# EAGLE library part ATMEGA328P-PU (library ATMega328P-PU v1)
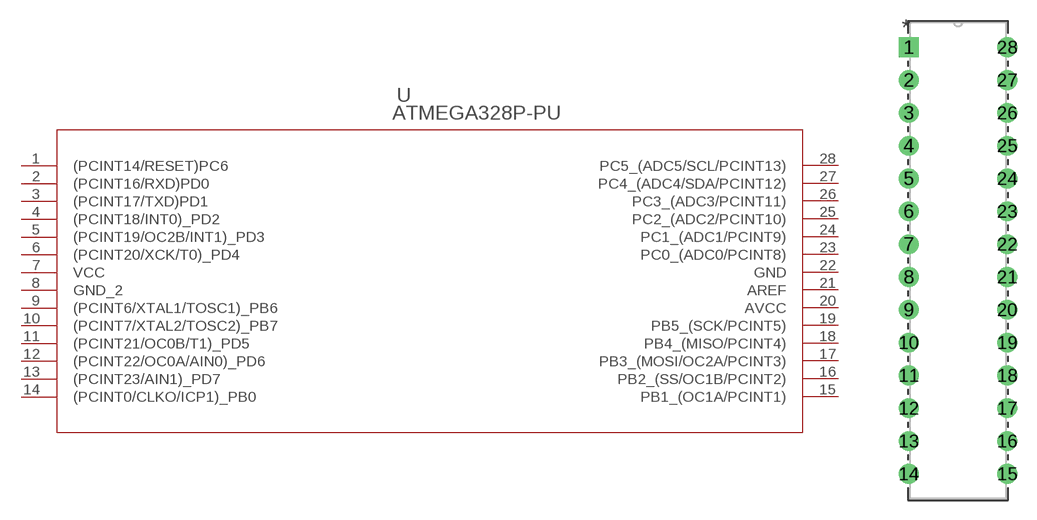
[diagram p0: symbol with the pads of 28P3_ATM; footprint 28P3_ATM]

Designator prefix U

## ATMEGA328P-PU28P3_ATM (COPYRIGHT: Copyright (C) 2022 Ultra Librarian. All rights reserved.; MANUFACTURER_PART_NUMBER: ATMEGA328P-PU; MFR_NAME: Microchip)  [28P3_ATM]
1  (PCINT14/RESET)PC6
2  (PCINT16/RXD)PD0
3  (PCINT17/TXD)PD1
4  (PCINT18/INT0)_PD2
5  (PCINT19/OC2B/INT1)_PD3
6  (PCINT20/XCK/T0)_PD4
7  VCC  pwr
8  GND_2  pwr
9  (PCINT6/XTAL1/TOSC1)_PB6
10  (PCINT7/XTAL2/TOSC2)_PB7
11  (PCINT21/OC0B/T1)_PD5
12  (PCINT22/OC0A/AIN0)_PD6
13  (PCINT23/AIN1)_PD7
14  (PCINT0/CLKO/ICP1)_PB0
15  PB1_(OC1A/PCINT1)
16  PB2_(SS/OC1B/PCINT2)
17  PB3_(MOSI/OC2A/PCINT3)
18  PB4_(MISO/PCINT4)
19  PB5_(SCK/PCINT5)
20  AVCC  pwr
21  AREF  pas
22  GND  pwr
23  PC0_(ADC0/PCINT8)
24  PC1_(ADC1/PCINT9)
25  PC2_(ADC2/PCINT10)
26  PC3_(ADC3/PCINT11)
27  PC4_(ADC4/SDA/PCINT12)
28  PC5_(ADC5/SCL/PCINT13)

## Footprint 28P3_ATM (pad centres in mm)
drill 0.813 pad 1.524 square: 1 0,0
drill 0.813 pad 1.524: 2 0,-2.54; 3 0,-5.08; 4 0,-7.62; 5 0,-10.16; 6 0,-12.7; 7 0,-15.24; 8 0,-17.78; 9 0,-20.32; 10 0,-22.86; 11 0,-25.4; 12 0,-27.94; 13 0,-30.48; 14 0,-33.02; 15 7.62,-33.02; 16 7.62,-30.48; 17 7.62,-27.94; 18 7.62,-25.4; 19 7.62,-22.86; 20 7.62,-20.32; 21 7.62,-17.78; 22 7.62,-15.24; 23 7.62,-12.7; 24 7.62,-10.16; 25 7.62,-7.62; 26 7.62,-5.08; 27 7.62,-2.54; 28 7.62,0